# Altium schematic symbol library ti-logic.SchLib: 19 symbols
Pins are listed as number, name and electrical type; pins without a type are passive.

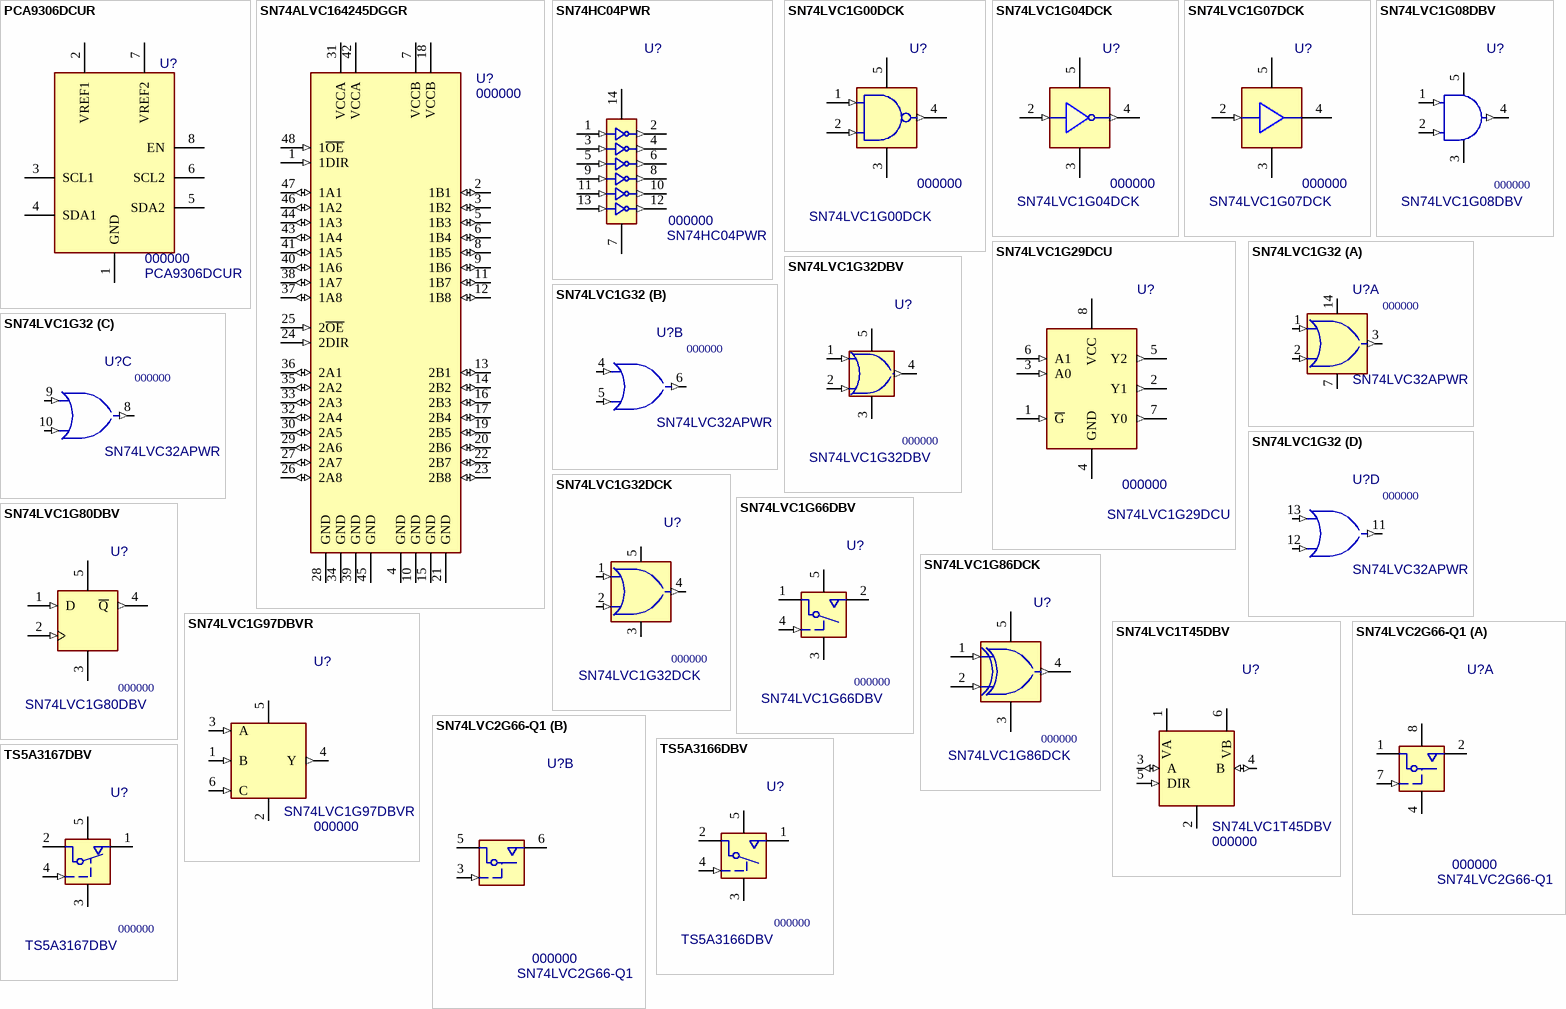
[diagram p0: symbols PCA9306DCUR to TS5A3167DBV]

## PCA9306DCUR
designator U?, comment 000000  value PCA9306DCUR
Dual Bidiretionsl I2C Bus Level Translator; MF: Texas Instruments; Package: TSSOP-8; PN: 000000; ExtraInfo: *
footprint DCU (R-PDSO-G8) (TSSOP, 8-Leads, Body 2.1x2.4mm (max), Pitch 0.50mm, IPC Medium Density)
pins: 1 GND (power), 2 VREF1 (power), 3 SCL1 (oc), 4 SDA1 (oc), 5 SDA2 (oc), 6 SCL2 (oc), 7 VREF2 (power), 8 EN (oc)
1 alternate drawing of the same symbol

## SN74ALVC164245DGGR
designator U?, comment 000000
16 Bit Dual-Supply Bus Transceiver; Value: SN74ALVC164245DGGR; Package: TSSOP-48; PN: 000000; ExtraInfo: *
footprint DGV (R-PDSO-G48) (TSSOP, 48-Leads, Body 9.8x4.5mm (max), Pitch 0.40mm, IPC Medium Density)
pins: 1 1DIR (in), 2 1B1 (io), 3 1B2 (io), 4 GND (power), 5 1B3 (io), 6 1B4 (io), 7 VCCB (power), 8 1B5 (io), 9 1B6 (io), 10 GND (power), 11 1B7 (io), 12 1B8 (io), 13 2B1 (io), 14 2B2 (io), 15 GND (power), 16 2B3 (io), 17 2B4 (io), 18 VCCB (power), 19 2B5 (io), 20 2B6 (io), 21 GND (power), 22 2B7 (io), 23 2B8 (io), 24 2DIR (in), 25 2~{OE} (in), 26 2A8 (io), 27 2A7 (io), 28 GND (power), 29 2A6 (io), 30 2A5 (io), 31 VCCA (power), 32 2A4 (io), 33 2A3 (io), 34 GND (power), 35 2A2 (io), 36 2A1 (io), 37 1A8 (io), 38 1A7 (io), 39 GND (power), 40 1A6 (io), 41 1A5 (io), 42 VCCA (power), 43 1A4 (io), 44 1A3 (io), 45 GND (power), 46 1A2 (io), 47 1A1 (io), 48 1~{OE} (in)

## SN74HC04PWR
designator U?, comment 000000  value SN74HC04PWR
Hex Inverters CMOS; PN: 000000; Package: 14-TSSOP; ExtraInfo: *
footprint PW (R-PDSO-G14) L (TSOP, 14-Leads, Body 5.1x4.5mm (max), Pitch 0.65mm, IPC High Density)
pins: 1 1A (in), 2 1Y (out), 3 2A (in), 4 2Y (out), 5 3A (in), 6 3Y (out), 7 GND (power), 8 4Y (out), 9 4A (in), 10 5Y (out), 11 5A (in), 12 6Y (out), 13 6A (in), 14 VCC (power)

## SN74LVC1G00DCK
designator U?, comment 000000  value SN74LVC1G00DCK
Single 2-Input NAND Gate; PN: 000000; Package: SOT223-5; ExtraInfo: *
footprint DCK (R-PDS0-G5) (SOT223, 5-Leads, Body 2.2x2.4mm (max), Pitch 0.65mm, IPC Medium Density)
pins: 1 A (in), 2 B (in), 3 GND (power), 4 Y (out), 5 VCC (power)
1 alternate drawing of the same symbol

## SN74LVC1G04DCK
designator U?, comment 000000  value SN74LVC1G04DCK
Single Inverter Gate; PN: 000000; Package: SOT223-5; ExtraInfo: *
footprint DCK (R-PDS0-G5) (SOT223, 5-Leads, Body 2.2x2.4mm (max), Pitch 0.65mm, IPC Medium Density)
pins: 2 A (in), 3 GND (power), 4 Y (out), 5 VCC (power)

## SN74LVC1G07DCK
designator U?, comment 000000  value SN74LVC1G07DCK
Single Buffer/Driver With Open-Drain Output; PN: 000000; Package: SOT223-5; ExtraInfo: *
footprint DCK (R-PDS0-G5) (SOT223, 5-Leads, Body 2.2x2.4mm (max), Pitch 0.65mm, IPC Medium Density)
pins: 2 A (in), 3 GND (power), 4 Y (oc), 5 VCC (power)
1 alternate drawing of the same symbol

## SN74LVC1G08DBV
designator U?, comment 000000  value SN74LVC1G08DBV
Single 2-Input AND Gate; Package: SOT23-5; PN: 000000; ExtraInfo: *
footprint DBV (R-PDSO-G5) (SOT23, 5-Leads, Body 3.0x3.0mm (max), Pitch 0.95mm, IPC High Density)
pins: 1 A (in), 2 B (in), 3 GND (power), 4 Y (out), 5 VCC (power)
1 alternate drawing of the same symbol

## SN74LVC1G29DCU
designator U?, comment 000000  value SN74LVC1G29DCU
2-of-3 Decoder/Demultiplexer; Package: TSSOP-8; PN: 000000; ExtraInfo: *
footprint DCU (R-PDSO-G8) (TSSOP, 8-Leads, Body 2.1x2.4mm (max), Pitch 0.50mm, IPC Medium Density)
pins: 1 ~{G} (in), 2 Y1 (out), 3 A0 (in), 4 GND (power), 5 Y2 (out), 6 A1 (in), 7 Y0 (out), 8 VCC (power)
1 alternate drawing of the same symbol

## SN74LVC1G32
designator U?, comment 000000  value SN74LVC32APWR
2-Input OR Gate; MF: Texas Instruments; Package: SOT223-5; PN: 000000; ExtraInfo: *; MF PN: SN74LVC32APWR; Price: 0.16408
footprint PW (R-PDSO-G14) L (TSOP, 14-Leads, Body 5.1x4.5mm (max), Pitch 0.65mm, IPC High Density)
part A pins: 1 A (in), 2 B (in), 3 Y (out), 7 GND (power), 14 VCC (power)
part B pins: 4 (in), 5 (in), 6 (out)
part C pins: 8 Y (out), 9 (in), 10 (in)
part D pins: 11 (out), 12 (in), 13 4B (in)

## SN74LVC1G32DBV
designator U?, comment 000000  value SN74LVC1G32DBV
Single 2-Input OR Gate; Package: SOT23-5; PN: 000000; ExtraInfo: *
footprint DBV (R-PDSO-G5) (SOT23, 5-Leads, Body 3.0x3.0mm (max), Pitch 0.95mm, IPC High Density)
pins: 1 A (in), 2 B (in), 3 GND (power), 4 Y (out), 5 VCC (power)
1 alternate drawing of the same symbol

## SN74LVC1G32DCK
designator U?, comment 000000  value SN74LVC1G32DCK
Single 2-Input OR Gate; Package: SOT223-5; PN: 000000; ExtraInfo: *
footprint DGK (R-PDSO-G8) (8-MSOP)
pins: 1 A (in), 2 B (in), 3 GND (power), 4 Y (out), 5 VCC (power)
1 alternate drawing of the same symbol

## SN74LVC1G66DBV
designator U?, comment 000000  value SN74LVC1G66DBV
SPDT Snalog Switch; Package: SOT23-5; PN: 000000; ExtraInfo: *
footprint DBV (R-PDSO-G5) (SOT23, 5-Leads, Body 3.0x3.0mm (max), Pitch 0.95mm, IPC High Density)
pins: 1 1A (hiz), 2 1B (hiz), 3 GND (power), 4 1C (in), 5 VCC (power)
1 alternate drawing of the same symbol

## SN74LVC1G80DBV
designator U?, comment 000000  value SN74LVC1G80DBV
Single D-Type Flip-Flop; Package: SOT23-5; PN: 000000; ExtraInfo: *
footprint DBV (R-PDSO-G5) (SOT23, 5-Leads, Body 3.0x3.0mm (max), Pitch 0.95mm, IPC High Density)
pins: 1 D (in), 2 CLK (in), 3 GND (power), 4 ~{Q} (out), 5 VCC (power)
1 alternate drawing of the same symbol

## SN74LVC1G86DCK
designator U?, comment 000000  value SN74LVC1G86DCK
Single 2-Input XOR Gate; Package: SOT223-5; PN: 000000; ExtraInfo: *
footprint DCK (R-PDS0-G5) (SOT223, 5-Leads, Body 2.2x2.4mm (max), Pitch 0.65mm, IPC Medium Density)
pins: 1 A (in), 2 B (in), 3 GND (power), 4 Y (out), 5 VCC (power)
1 alternate drawing of the same symbol

## SN74LVC1G97DBVR
designator U?, comment 000000  value SN74LVC1G97DBVR
Lower-power configurable multiple function gate; MF: NXP; PN: 000000; Package: SOT23-6; ExtraInfo: *; MF PN: SN74LVC1G97DBVR
footprint DVB (R-PDSO-G6) (SOT23, 6-Leads, Body 3.0x3.0mm (max), Pitch 0.95mm, IPC Medium Density)
pins: 1 B (in), 2 GND (power), 3 A (in), 4 Y (out), 5 VCC (power), 6 C (in)

## SN74LVC1T45DBV
designator U?, comment 000000  value SN74LVC1T45DBV
Voltage Level Translator Bidirectional; MF PN: SN74LVC1T45DBVR; MF: Texas Instruments; PN: 000000; Package: SOT23-6; ExtraInfo: *
footprint DVB (R-PDSO-G6) (SOT23, 6-Leads, Body 3.0x3.0mm (max), Pitch 0.95mm, IPC Medium Density)
pins: 1 VA (power), 2 GND (power), 3 A (io), 4 B (io), 5 DIR (in), 6 VB (power)

## SN74LVC2G66-Q1
designator U?, comment 000000  value SN74LVC2G66-Q1
SPDT Snalog Switch; PN: 000000; Package: SC70; ExtraInfo: *
footprint DGK (R-PDSO-G8) (8-MSOP)
simulation model SN74VC2GG66_Q1 ($ENCRYPTED_LIB)
part A pins: 1 1A (hiz), 2 1B (hiz), 4 GND (power), 7 1C (in), 8 VCC (power)
part B pins: 3 2C (in), 5 2A (hiz), 6 2B (hiz)

## TS5A3166DBV
designator U?, comment 000000  value TS5A3166DBV
SPST NO Analog Switch 0.9 Ohm; Package: SOT23-5; PN: 000000; ExtraInfo: *
footprint DBV (R-PDSO-G5) (SOT23, 5-Leads, Body 3.0x3.0mm (max), Pitch 0.95mm, IPC High Density)
pins: 1 NO (hiz), 2 COM (hiz), 3 GND (power), 4 IN (in), 5 VCC (power)
1 alternate drawing of the same symbol

## TS5A3167DBV
designator U?, comment 000000  value TS5A3167DBV
SPST NC Analog Switch 0.9 Ohm; Package: SOT23-5; PN: 000000; ExtraInfo: *
footprint DBV (R-PDSO-G5) (SOT23, 5-Leads, Body 3.0x3.0mm (max), Pitch 0.95mm, IPC High Density)
pins: 1 NC (hiz), 2 COM (hiz), 3 GND (power), 4 IN (in), 5 VCC (power)
1 alternate drawing of the same symbol